# Altium schematic symbol library SCH - COMPARATOR - TI LM2901.SCHLIB: 1 symbol
Pins are listed as number, name and electrical type; pins without a type are passive.

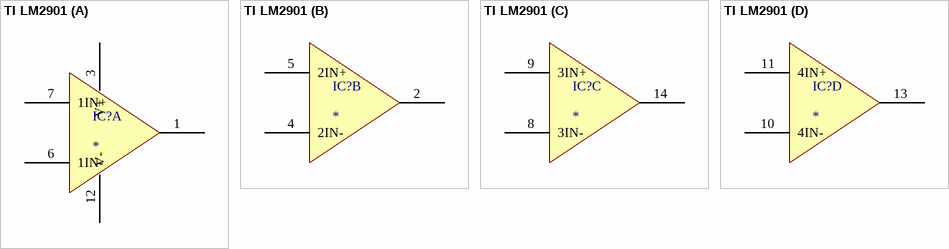
[diagram p0: symbol TI LM2901]

## TI LM2901
designator IC?
part A pins: 1 1OUT, 3 V+ (power), 6 1IN-, 7 1IN+, 12 V- (power)
part B pins: 2 2OUT, 4 2IN-, 5 2IN+
part C pins: 8 3IN-, 9 3IN+, 14 3OUT
part D pins: 10 4IN-, 11 4IN+, 13 4OUT